# Altium schematic symbol library HLK-PM03.SchLib: 1 symbol
Pins are listed as number, name and electrical type; pins without a type are passive.

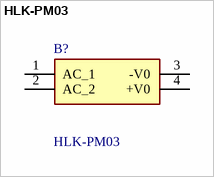
[diagram p0: symbol HLK-PM03]

## HLK-PM03
designator B?
Power Module AC-DC Through Hole RoHS; Manufacturer_Name: Hi-Link; Geometry.Height: 15mm; Manufacturer_Part_Number: HLK-PM03; Mouser Part Number: *; Mouser Price/Stock: *; Arrow Part Number: *; Arrow Price/Stock: *; Datasheet Link: https://datasheet.lcsc.com/szlcsc/1906201102_HI-LINK-HLK-PM03_C209904.pdf
footprint HLKPM03
pins: 1 AC_1, 2 AC_2, 3 -V0, 4 +V0